# Altium footprint library CAP-ELEC-SMD.PcbLib: 1 footprints
Each footprint in its own frame and in the unit in brackets; x right, y up, seen from the top. Pads: shape width x height; smd on the part's side, far side on the other; paste and mask are expansions set on the pad; w line width, h text height; cw(c..) or ccw(c..) is an arc to the next point about the centre after c.
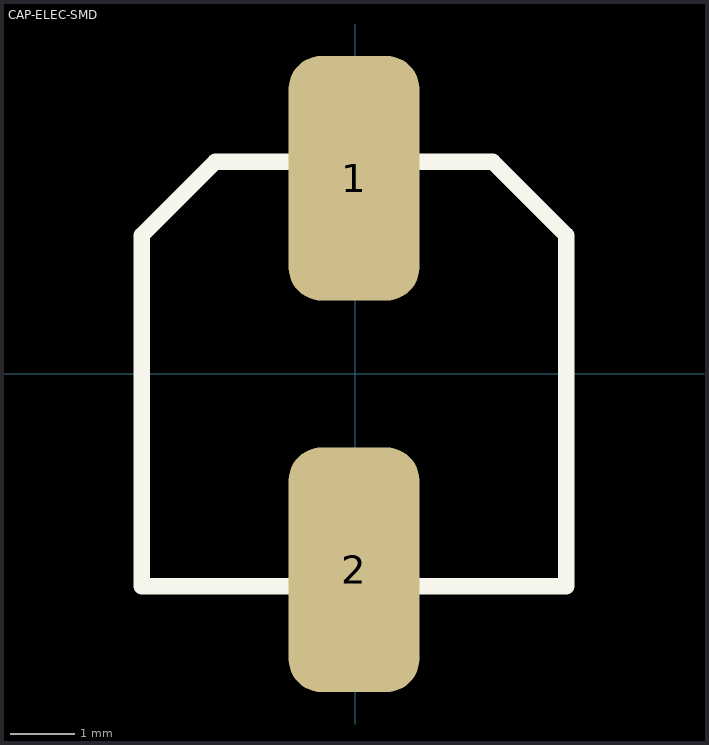
[diagram p0: the footprint, top view; thin cyan lines are the x and y axes]

## CAP-ELEC-SMD [mil] "CAP-ELEC-SMD-100UFX16V"
pads (2):
  rrect50% 80x150 smd: 1(-0.83,119.76) 2(-0.83,-120.24)
Top Overlay:
  lines w10: -130.83,-130.24 129.17,-130.24 129.17,84.76 84.17,129.76 -85.83,129.76 -130.83,84.76 -130.83,-130.24
3D body "CAP-ELEC-SMD-100UF.stp": height 216.93, standoff 0, extent -127.97,-151.59 127.93,151.56